# Altium integrated library ON Semi Signal Management Comparators.IntLib: 78 symbols (part 3 of 3)
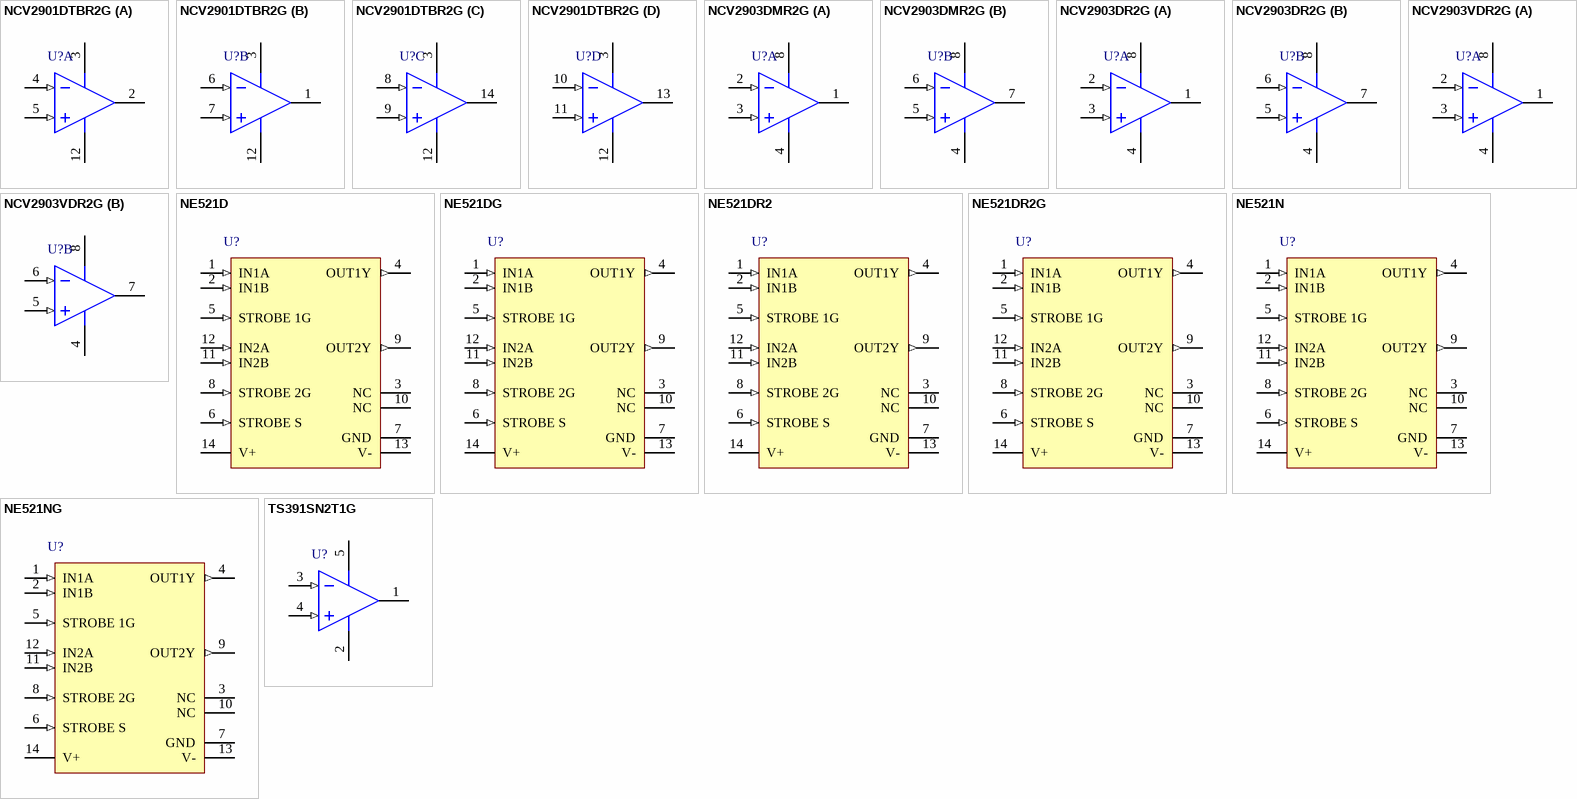
[diagram p6: symbols NCV2901DTBR2G to TS391SN2T1G]

## NE521DR2G
designator U?
High-Speed Dual-Differential Comparator / Sense Amplifier, -7 to 7 V, 0 to 70 degC, 14-Pin SOIC, Pb-Free, Tape and Reel; Manufacturer: On Semiconductor; PartNumber: NE521DR2G; VCC Max (V): 7; DatasheetVersion: Rev. 4; PackageVersion: Rev. H; PackageReference: SOIC-14-751A-03_H; PackageDescription: 14-Pin Small Outline Integrated Circuit, Body 8.65 x 3.9 mm, Pitch 1.27 mm; Supplier 1: Digi-Key; Supplier Part Number 1: NE521DR2GOSTR-ND; Supplier 2: Digi-Key; Supplier Part Number 2: NE521DR2GOSCT-ND; Supplier 3: Newark; Supplier Part Number 3: 26K5041; Supplier 4: Mouser; Supplier Part Number 4: 863-NE521DR2G; Packing: Tape and Reel; RoHS: TRUE; VCC Min (V): -7; Mounting Technology: Surface Mount; ComponentLink1Description: Manufacturer URL; ComponentLink1URL: http://www.onsemi.com/; ComponentLink2Description: Datasheet; ComponentLink2URL: http://www.onsemi.com/pub_link/Collateral/NE521-D.PDF; ComponentLink3Description: Package Specification; ComponentLink3URL: http://www.onsemi.com/pub_link/Collateral/MC74AC74-D.PDF
footprint ONSC-SOIC-14-751A-03_H_V (SOIC, 14-Leads, Body 8.75x4mm, Pitch 1.27mm)
pins: 1 IN1A (in), 2 IN1B (in), 3 NC, 4 OUT1Y (out), 5 STROBE 1G (in), 6 STROBE S (in), 7 GND (power), 8 STROBE 2G (in), 9 OUT2Y (out), 10 NC, 11 IN2B (in), 12 IN2A (in), 13 V- (power), 14 V+ (power)

## NE521N
designator U?
High-Speed Dual-Differential Comparator / Sense Amplifier, -7 to 7 V, 0 to 70 degC, 14-Pin PDIP, Tube; Manufacturer: On Semiconductor; PartNumber: NE521N; VCC Max (V): 7; DatasheetVersion: Rev. 4; PackageVersion: Rev. P, 10/2006; PackageReference: PDIP-14-646-06_P; PackageDescription: 14-Pin Plastic Dual-In Line Package, Body 18.86 x 6.35 mm, Pitch 2.54 mm; Supplier 1: Digi-Key; Supplier Part Number 1: NE521N-ND; Supplier 2: Mouser; Supplier Part Number 2: 863-NE521N; Packing: Tube; RoHS: FALSE; VCC Min (V): -7; Mounting Technology: Through Hole; ComponentLink1Description: Manufacturer URL; ComponentLink1URL: http://www.onsemi.com/; ComponentLink2Description: Datasheet; ComponentLink2URL: http://www.onsemi.com/pub_link/Collateral/NE521-D.PDF; ComponentLink3Description: Package Specification; ComponentLink3URL: http://www.onsemi.com/pub_link/Collateral/MC14066B-D.PDF
footprint ONSC-PDIP-14-646-06_P (DIP, 14-Leads, Body 19.55x6.6mm, Pitch 2.54mm)
pins: 1 IN1A (in), 2 IN1B (in), 3 NC, 4 OUT1Y (out), 5 STROBE 1G (in), 6 STROBE S (in), 7 GND (power), 8 STROBE 2G (in), 9 OUT2Y (out), 10 NC, 11 IN2B (in), 12 IN2A (in), 13 V- (power), 14 V+ (power)

## NE521NG
designator U?
High-Speed Dual-Differential Comparator / Sense Amplifier, -7 to 7 V, 0 to 70 degC, 14-Pin PDIP, Pb-Free, Tube; Manufacturer: On Semiconductor; PartNumber: NE521NG; VCC Max (V): 7; DatasheetVersion: Rev. 4; PackageVersion: Rev. P, 10/2006; PackageReference: PDIP-14-646-06_P; PackageDescription: 14-Pin Plastic Dual-In Line Package, Body 18.86 x 6.35 mm, Pitch 2.54 mm; Supplier 1: Digi-Key; Supplier Part Number 1: NE521NGOS-ND; Supplier 2: Newark; Supplier Part Number 2: 42K2201; Supplier 3: Mouser; Supplier Part Number 3: 863-NE521NG; Packing: Tube; RoHS: TRUE; VCC Min (V): -7; Mounting Technology: Through Hole; ComponentLink1Description: Manufacturer URL; ComponentLink1URL: http://www.onsemi.com/; ComponentLink2Description: Datasheet; ComponentLink2URL: http://www.onsemi.com/pub_link/Collateral/NE521-D.PDF; ComponentLink3Description: Package Specification; ComponentLink3URL: http://www.onsemi.com/pub_link/Collateral/MC14066B-D.PDF
footprint ONSC-PDIP-14-646-06_P (DIP, 14-Leads, Body 19.55x6.6mm, Pitch 2.54mm)
pins: 1 IN1A (in), 2 IN1B (in), 3 NC, 4 OUT1Y (out), 5 STROBE 1G (in), 6 STROBE S (in), 7 GND (power), 8 STROBE 2G (in), 9 OUT2Y (out), 10 NC, 11 IN2B (in), 12 IN2A (in), 13 V- (power), 14 V+ (power)

## TS391SN2T1G
designator U?
Low Power Single Voltage Comparator, 2 to 36 V, -40 to 125 degC, 5-Pin TSOP, Pb-Free, Tape and Reel; Manufacturer: On Semiconductor; PartNumber: TS391SN2T1G; ICC Typ (mA): 0.5; IO Typ (mA): 16; VCC Max (V): 36; VCC Min (V): 2; DatasheetVersion: Rev. 3; PackageVersion: Rev. K, 04/2013; PackageReference: TSOP-5-483-02; PackageDescription: 5-Pin Small Outline Package, Body 3 x 1.5 mm, Pitch 0.95 mm; Supplier 1: Digi-Key; Supplier Part Number 1: TS391SN2T1GOSCT-ND; Supplier 2: Digi-Key; Supplier Part Number 2: TS391SN2T1GOSDKR-ND; Supplier 3: Newark; Supplier Part Number 3: 68X4573; Supplier 4: Mouser; Supplier Part Number 4: 863-TS391SN2T1G; Packing: Tape and Reel; RoHS: TRUE; Mounting Technology: Surface Mount; ComponentLink1Description: Manufacturer URL; ComponentLink1URL: http://www.onsemi.com/; ComponentLink2Description: Datasheet; ComponentLink2URL: http://www.onsemi.com/pub_link/Collateral/TS391-D.PDF; ComponentLink3Description: Package Specification; ComponentLink3URL: http://www.onsemi.com/pub_link/Collateral/483.PDF
footprint ONSC-TSOP-5-483-02_V (SOP, 5-Leads, Body 3x1.5mm, Pitch 0.95mm)
pins: 1 OUT (oc), 2 VEE (power), 3 IN- (in), 4 IN+ (in), 5 VCC (power)